# Altium footprint library Amplifiers_and_Linear_PcbLib.PcbLib: 10 footprints
Each footprint in its own frame and in the unit in brackets; x right, y up, seen from the top. Pads: shape width x height; smd on the part's side, far side on the other; paste and mask are expansions set on the pad; w line width, h text height; cw(c..) or ccw(c..) is an arc to the next point about the centre after c.
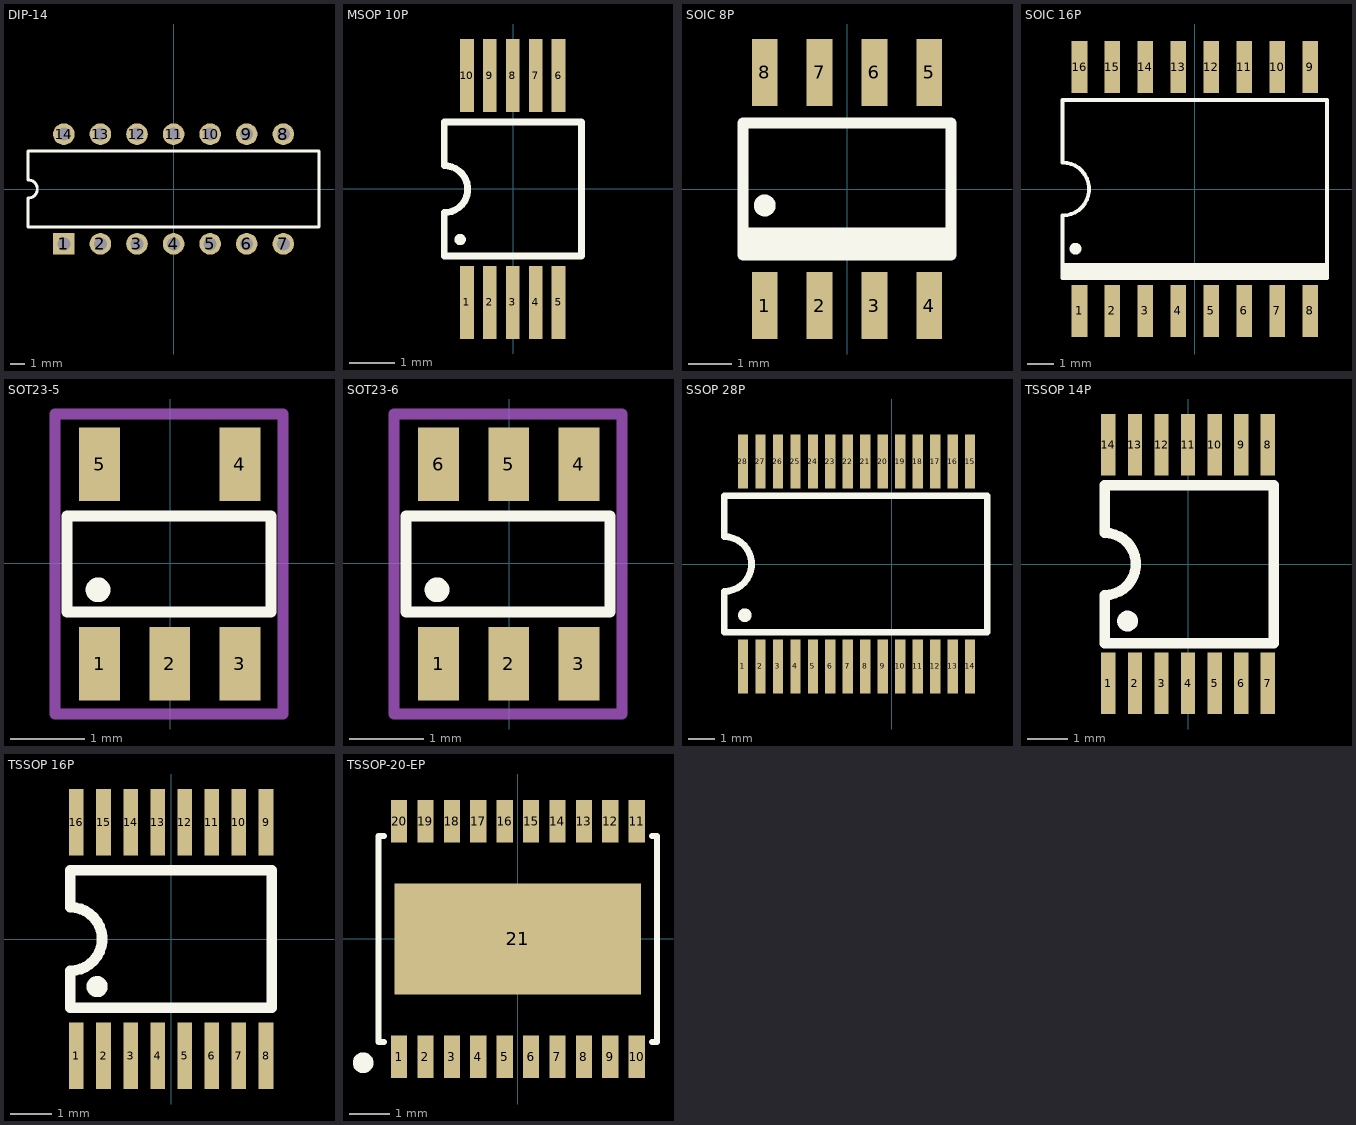
[diagram p0: the footprints below, top view; thin cyan lines are the x and y axes]

## DIP-14 [mm]
height 5.08
pads (14):
  rect 1.5x1.5 hole 0.9: 1(-7.62,-3.81)
  round 1.5 hole 0.9: 2(-5.08,-3.81) 3(-2.54,-3.81) 4(0,-3.81) 5(2.54,-3.81) 6(5.08,-3.81) 7(7.62,-3.81) 8(7.62,3.81) 9(5.08,3.81) 10(2.54,3.81) 11(0,3.81) 12(-2.54,3.81) 13(-5.08,3.81) 14(-7.62,3.81)
Top Overlay:
  lines w0.2: -10.1,-2.65 10.1,-2.65 10.1,2.65 -10.1,2.65 -10.1,0.635 cw(c-10.1,0) -10.1,-0.635 -10.1,-2.65
3D body "CircuitWorks-DIP-14.step": height 3.71, standoff -3.27, extent -9.525,-4 9.525,4

## MSOP 10P [mm] "3mm X 3mm (0.5mm)"
pads (10):
  rect 0.3x1.6 smd: 1(-1.016,-2.476) 2(-0.516,-2.476) 3(-0.016,-2.476) 4(0.484,-2.476) 5(0.984,-2.476) 6(0.984,2.476) 7(0.484,2.476) 8(-0.016,2.476) 9(-0.516,2.476) 10(-1.016,2.476)
Top Overlay:
  circle w0.127: c-1.165,-1.105 r0.06
  lines w0.15: -1.511,-1.46 1.486,-1.46 1.486,1.46 -1.511,1.46 -1.511,0.508 cw(c-1.511,-0.004) -1.511,-0.516 -1.511,-1.46
3D body "User Library-MSOP-10-1.step": height 1, standoff -0.05, extent -1.513,-2.577 1.487,2.45

## SOIC 8P [mm] "3.9mm ¼e"
pads (8):
  rect 0.6x1.55 smd: 1(-1.905,-2.7) 2(-0.635,-2.7) 3(0.635,-2.7) 4(1.905,-2.7) 5(1.905,2.7) 6(0.635,2.7) 7(-0.635,2.7) 8(-1.905,2.7)
Top Overlay:
  circle w0.254: c-1.905,-0.381 r0.127
  rectangle: -2.413,-1.524 2.413,-1.016
  lines w0.254: -2.413,-1.016 2.413,-1.016 ; -2.413,-1.524 2.413,-1.524 2.413,1.524 -2.413,1.524 -2.413,-1.524
3D body "User Library-SOIC-8-1.step": height 1.75, standoff 0, extent -2.45,-3 2.45,3

## SOIC 16P [mm] "7.5mm X 10.3mm"
pads (16):
  rect 0.6x2 smd: 1(-4.445,-4.699) 2(-3.175,-4.699) 3(-1.905,-4.699) 4(-0.635,-4.699) 5(0.635,-4.699) 6(1.905,-4.699) 7(3.175,-4.699) 8(4.445,-4.699) 9(4.445,4.701) 10(3.175,4.701) 11(1.905,4.701) 12(0.635,4.701) 13(-0.635,4.701) 14(-1.905,4.701) 15(-3.175,4.701) 16(-4.445,4.701)
Top Overlay:
  circle w0.254: c-4.6,-2.3 r0.1
  rectangle: -5.099,-3.429 5.1,-2.921
  lines w0.15: -5.099,-2.921 5.1,-2.921 ; -5.099,-3.429 -5.099,-1.024 ccw(c-5.099,0) -5.099,1.024 -5.099,3.429 5.1,3.429 5.1,-3.429 -5.099,-3.429
3D body "User Library-so16w.step": height 3.5, standoff 0, extent -5.1,-5.15 5.1,5.15

## SOT23-5 [mm]
height 1.8
pads (5):
  rect 0.55x1 smd: 1(-0.96,-1.36) 2(-0.01,-1.36) 3(0.94,-1.36) 4(0.94,1.34) 5(-0.96,1.34)
Top Overlay:
  circle w0.254: c-0.98,-0.36 r0.04
  lines w0.15: -1.4,-0.66 -1.4,0.64 1.36,0.64 1.36,-0.66 -1.4,-0.66
Mechanical 15:
  lines w0.15: -1.56,-2.04 -1.56,2.02 1.52,2.02 1.52,-2.04 -1.56,-2.04
3D body "User Library-SOT23-5-3.STEP": height 1.45, standoff 0.01, extent -1.563,-1.6 1.537,1.6

## SOT23-6 [mm]
height 1.8
pads (6):
  rect 0.55x1 smd: 1(-0.96,-1.36) 2(-0.01,-1.36) 3(0.94,-1.36) 4(0.94,1.34) 5(-0.01,1.34) 6(-0.96,1.34)
Top Overlay:
  circle w0.254: c-0.98,-0.36 r0.04
  lines w0.15: -1.4,-0.66 1.36,-0.66 1.36,0.64 -1.4,0.64 -1.4,-0.66
Mechanical 15:
  lines w0.15: -1.56,-2.04 1.52,-2.04 1.52,2.02 -1.56,2.02 -1.56,-2.04
3D body "User Library-SOT23-6-2.step": height 1.45, standoff 0, extent -1.466,-1.41 1.434,1.39

## SSOP 28P [mm] "0.65mm"
pads (28):
  rect 0.38x2 smd: 1(-5.529,-3.81) 2(-4.879,-3.81) 3(-4.229,-3.81) 4(-3.579,-3.81) 5(-2.929,-3.81) 6(-2.279,-3.81) 7(-1.629,-3.81) 8(-0.979,-3.81) 9(-0.329,-3.81) 10(0.321,-3.81) 11(0.971,-3.81) 12(1.621,-3.81) 13(2.271,-3.81) 14(2.921,-3.81) 15(2.921,3.81) 16(2.271,3.81) 17(1.621,3.81) 18(0.971,3.81) 19(0.321,3.81) 20(-0.329,3.81) 21(-0.979,3.81) 22(-1.629,3.81) 23(-2.279,3.81) 24(-2.929,3.81) 25(-3.579,3.81) 26(-4.229,3.81) 27(-4.879,3.81) 28(-5.529,3.81)
Top Overlay:
  circle w0.254: c-5.461,-1.905 r0.127
  lines w0.254: -6.223,-2.54 -6.223,-1.016 ccw(c-6.223,0) -6.223,1.016 -6.223,2.54 3.556,2.54 3.556,-2.54 -6.223,-2.54
3D body "User Library-SSOP-28-1.step": height 2.15, standoff 0, extent -6.455,-3.878 3.875,3.878

## TSSOP 14P [mm]
pads (14):
  rect 0.35x1.5 smd: 1(-1.95,-2.921) 2(-1.3,-2.921) 3(-0.65,-2.921) 4(0,-2.921) 5(0.65,-2.921) 6(1.3,-2.921) 7(1.95,-2.921) 8(1.95,2.921) 9(1.3,2.921) 10(0.65,2.921) 11(0,2.921) 12(-0.65,2.921) 13(-1.3,2.921) 14(-1.95,2.921)
Top Overlay:
  circle w0.254: c-1.48,-1.397 r0.127
  lines w0.254: -2.039,-1.943 -2.039,-0.762 ccw(c-2.039,0) -2.039,0.762 -2.039,1.93 2.101,1.93 2.101,-1.943 -2.039,-1.943
3D body "User Library-tssop14-2.step": height 1.2, standoff 0, extent -2.55,-3.2 2.55,3.2

## TSSOP 16P [mm] "4.40 mm¼e"
pads (16):
  rect 0.35x1.6 smd mask+0.07: 1(-2.275,-2.8) 2(-1.625,-2.8) 3(-0.975,-2.8) 4(-0.325,-2.8) 5(0.325,-2.8) 6(0.975,-2.8) 7(1.625,-2.8) 8(2.275,-2.8) 9(2.275,2.8) 10(1.625,2.8) 11(0.975,2.8) 12(0.325,2.8) 13(-0.325,2.8) 14(-0.975,2.8) 15(-1.625,2.8) 16(-2.275,2.8)
Top Overlay:
  circle w0.254: c-1.778,-1.143 r0.127
  lines w0.254: -2.42,-1.651 -2.42,-0.762 ccw(c-2.42,0) -2.42,0.762 -2.42,1.651 ; -2.413,-1.651 2.413,-1.651 2.413,1.651 -2.413,1.651
3D body "User Library-TSSOP-16-1.step": height 1.1, standoff 0, extent -2.5,-3.2 2.5,3.2

## TSSOP-20-EP [mm] "20-TSSOP (0.173\"¡B4.40 mm¼e)»r²k½L"
pads (21):
  rect 0.4x1.05 smd: 1(-2.925,-2.902) 2(-2.275,-2.902) 3(-1.625,-2.902) 4(-0.975,-2.902) 5(-0.325,-2.902) 6(0.325,-2.902) 7(0.975,-2.902) 8(1.625,-2.902) 9(2.275,-2.902) 10(2.925,-2.902) 11(2.925,2.902) 12(2.275,2.902) 13(1.625,2.902) 14(0.975,2.902) 15(0.325,2.902) 16(-0.325,2.902) 17(-0.975,2.902) 18(-1.625,2.902) 19(-2.275,2.902) 20(-2.925,2.902)
  rect 6.07x2.74 smd: 21(0,0)
Top Overlay:
  circle w0.254: c-3.81,-3.048 r0.127
  lines w0.15: -3.302,-2.54 -3.429,-2.54 -3.429,2.54 -3.302,2.54 ; 3.302,-2.54 3.429,-2.54 3.429,2.54 3.302,2.54
3D body "User Library-TSSOP-20-2.STEP": height 1.2, standoff 0, extent -3.25,-3.2 3.25,3.2